# Altium footprint library CameraBoard.PcbLib: 41 footprints (part 1 of 3)
Each footprint in its own frame and in the unit in brackets; x right, y up, seen from the top. Pads: shape width x height; smd on the part's side, far side on the other; paste and mask are expansions set on the pad; w line width, h text height; cw(c..) or ccw(c..) is an arc to the next point about the centre after c.
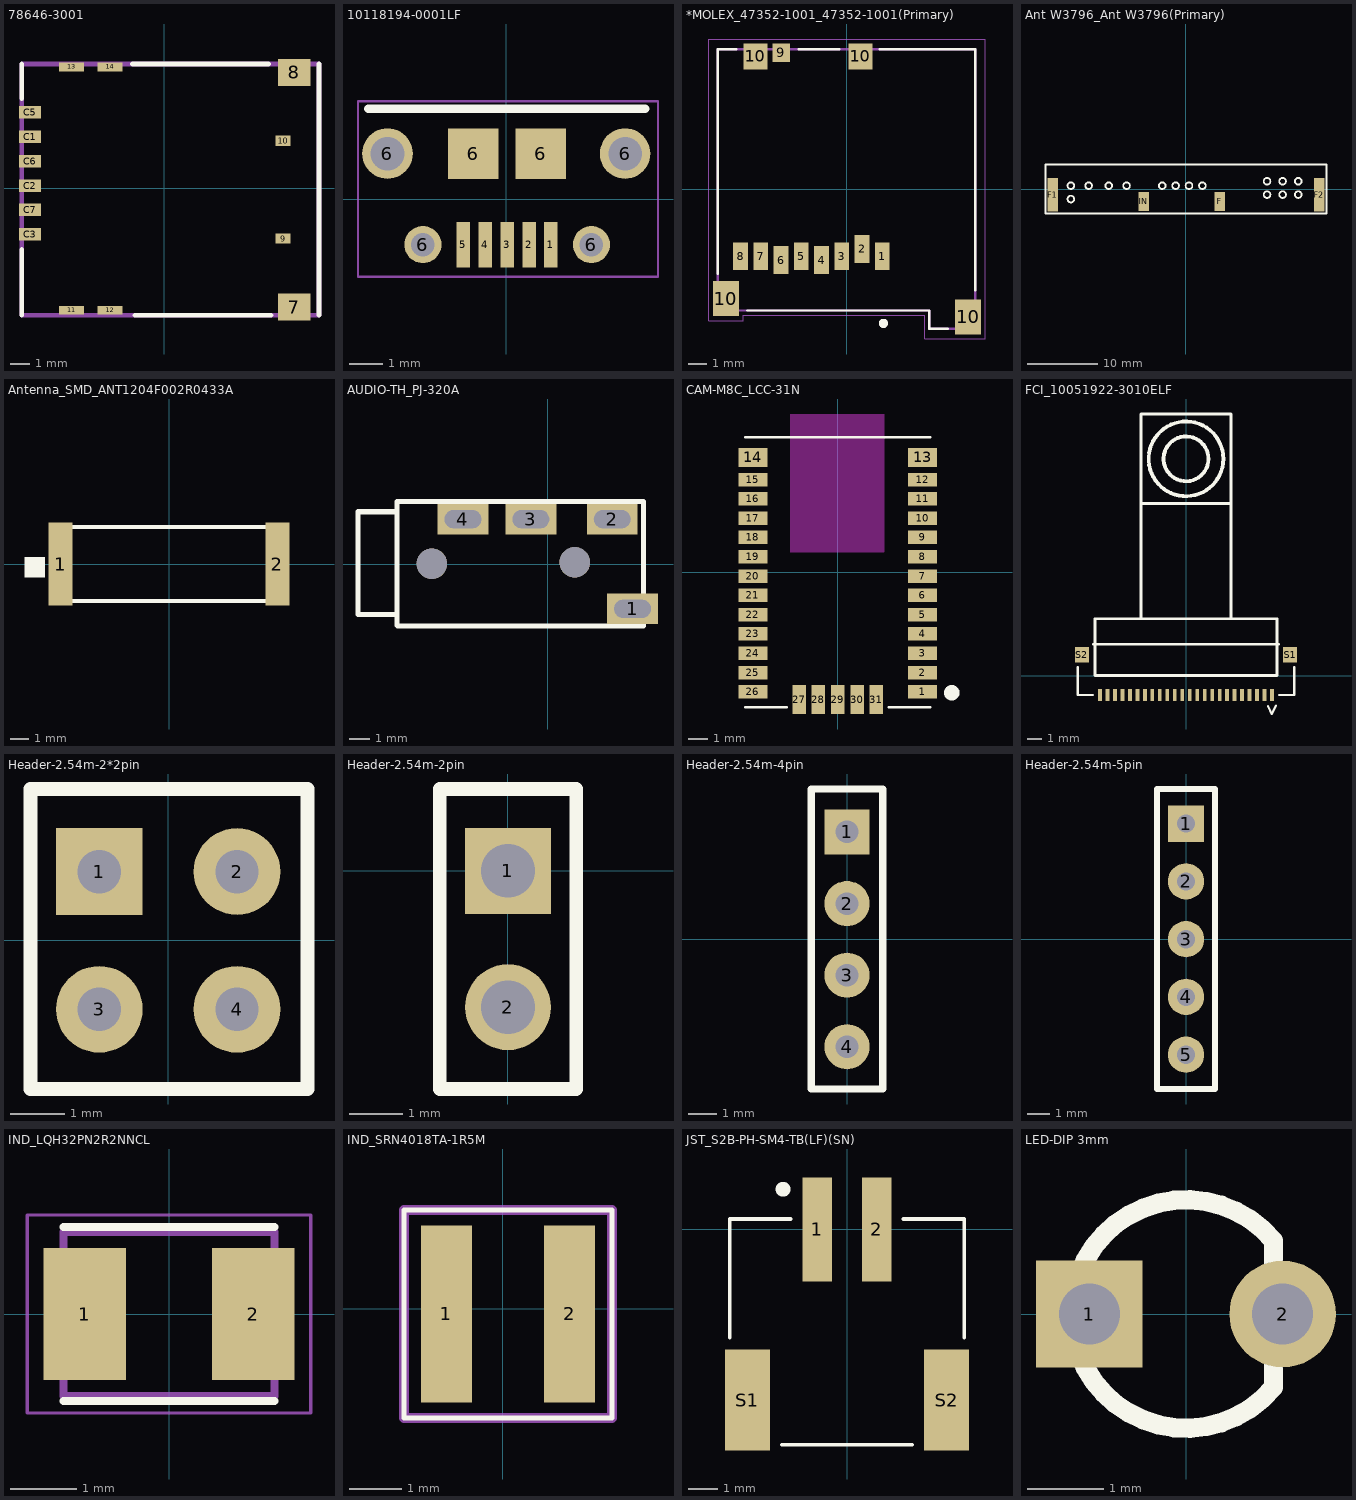
[diagram p0: the footprints below, top view; thin cyan lines are the x and y axes]

## 78646-3001 [mm]
pads (14):
  rect 1.7x1.4 smd: 7(6.762,-6.189) 8(6.762,6.021)
  rect 0.8x0.54 smd: 9(6.182,-2.619) 10(6.182,2.461)
  rect 1.3x0.45 smd: 11(-4.808,-6.349) 12(-2.808,-6.349) 13(-4.808,6.301) 14(-2.808,6.301)
  rect 1.15x0.65 smd: C1(-6.968,2.676) C2(-6.968,0.136) C3(-6.968,-2.404) C5(-6.968,3.946) C6(-6.968,1.406) C7(-6.968,-1.134)
Top Overlay:
  lines w0.254: -7.398,-6.604 -7.398,-3.184 ; -7.398,4.649 -7.398,6.446 ; -1.641,6.446 5.429,6.446 ; -1.514,-6.604 5.556,-6.604 ; 8.052,-6.604 8.052,6.446
Mechanical 15:
  lines w0.254: -7.398,-6.604 8.052,-6.604 8.052,6.446 -7.398,6.446 -7.398,-6.604
3D body "78646-3001.stp": height 1.81, standoff 0.36, extent -7.42,-6.7 8.03,6.35

## 10118194-0001LF [mm] "CONN USB MICRO B RECPT SMT R/A"
pads (11):
  rect 0.4x1.35 smd: 1(1.325,-1.35) 2(0.675,-1.35) 3(0.025,-1.35) 4(-0.625,-1.35) 5(-1.275,-1.35)
  round 1.5 hole 1: 6(-3.525,1.35) 6(3.525,1.35)
  round 1.1 hole 0.7: 6(-2.475,-1.35) 6(2.525,-1.35)
  rect 1.5x1.5 smd: 6(-0.975,1.35) 6(1.025,1.35)
Top Overlay:
  lines w0.25: -4.1,2.675 4.125,2.675
Mechanical 15:
  lines w0.07: -4.4,-2.3 4.5,-2.3 4.5,2.9 -4.4,2.9 -4.4,-2.3
3D body "MICRO_USB_5PIN_0921_ASM.STEP": height 2.73, standoff -0.55, extent -4,-1.553 4.05,4.027

## *MOLEX_47352-1001_47352-1001(Primary) [mm]
pads (13):
  rect 0.8x1.5 smd: 1(1.94,-3.66) 2(0.84,-3.26) 3(-0.26,-3.66) 4(-1.36,-3.86) 5(-2.46,-3.66) 6(-3.56,-3.86) 7(-4.66,-3.66) 8(-5.76,-3.66)
  rect 0.95x1 smd: 9(-3.56,7.4)
  rect 1.4x1.9 smd: 10(-6.55,-5.95) 10(6.6,-6.95)
  rect 1.3x1.4 smd: 10(-4.95,7.2) 10(0.75,7.2)
Top Overlay:
  circle w0.3: c2,-7.3 r0.1
  lines w0.127: -7,-4.6 -7,7.6 -6,7.6 ; -5.4,-6.6 4.5,-6.6 4.5,-7.6 5.5,-7.6 ; -2.6,7.6 -0.4,7.6 ; 1.8,7.6 7,7.6 7,-5.5
Mechanical 4:
  circle w0.3: c2,-3.7 r0.1
  circle w0.3: c2,-3.7 r0.1
  lines w0.127: -7,-6.6 4.5,-6.6 ; -7,-6.6 -7,7.6 ; -7,-6.6 4.5,-6.6 ; -7,-6.6 -7,7.6 ; -7,7.6 7,7.6 ; -7,7.6 7,7.6 ; 4.5,-7.6 7,-7.6 ; 4.5,-7.6 4.5,-6.6 ; 4.5,-7.6 7,-7.6 ; 4.5,-7.6 4.5,-6.6 ; 7,-7.6 7,7.6 ; 7,-7.6 7,7.6
Mechanical 16:
  lines w0.05: -7.5,-7.15 -5.6,-7.15 -5.6,-6.85 4.25,-6.85 4.25,-8.15 7.55,-8.15 7.55,8.15 -7.5,8.15 -7.5,-7.15
3D body "User Library-473521001_microSD.STEP": height 1.87, standoff -0.01, extent -7.05,-7.58 7.05,7.62

## Ant W3796_Ant W3796(Primary) [mm]
pads (4):
  rect 1.5x2.72 smd: F(4.808,-1.774) IN(-5.993,-1.774)
  rect 1.5x4.72 smd: F1(-18.992,-0.823) F2(19.008,-0.823)
Top Overlay:
  drawing of 544 lines, arcs and shapes, not listed

## Antenna_SMD_ANT1204F002R0433A [mm]
pads (2):
  rect 1.3x4.5 smd: 1(-5.85,0) 2(5.85,0)
Top Overlay:
  rectangle: -7.8,-0.74 -6.7,0.39
  lines w0.2: -6,-2 6,-2 6,2 -6,2 -6,-2

## AUDIO-TH_PJ-320A [mil]
pads (6):
  rect 98.42x59.06 hole 35.43 slot 70.87 at 0 deg: 1(164.15,-86.8) 4(-164.15,86.8)
  rect 98.43x59.06 hole 35.43 slot 70.86 at 0 deg: 2(124.78,86.8) 3(-32.7,86.8)
  round 59.06 hole 59.06 unplated: ""(-224.25,0.6) ""(52.05,3)
Top Overlay:
  lines w10: -367.34,-97.04 -367.34,99.81 ; -367.34,-96.25 -367.34,-97.43 -292.93,-97.43 -291.75,-97.43 ; -367.34,100.99 -292.93,100.99 -291.75,102.17 ; -291.75,-119.09 -291.75,121.07 184.63,121.07 ; -290.97,-119.87 185.41,-119.87 ; 185.41,-119.09 185.41,121.07

## CAM-M8C_LCC-31N [mm]
pads (31):
  rect 1.5x0.7 smd: 1(4.4,-6.2) 2(4.4,-5.2) 3(4.4,-4.2) 4(4.4,-3.2) 5(4.4,-2.2) 6(4.4,-1.2) 7(4.4,-0.2) 8(4.4,0.8) 9(4.4,1.8) 10(4.4,2.8) 11(4.4,3.8) 12(4.4,4.8) 15(-4.4,4.8) 16(-4.4,3.8) 17(-4.4,2.8) 18(-4.4,1.8) 19(-4.4,0.8) 20(-4.4,-0.2) 21(-4.4,-1.2) 22(-4.4,-2.2) 23(-4.4,-3.2) 24(-4.4,-4.2) 25(-4.4,-5.2) 26(-4.4,-6.2)
  rect 1.5x1 smd: 13(4.4,5.95) 14(-4.4,5.95)
  rect 0.7x1.5 smd: 27(-2,-6.6) 28(-1,-6.6) 29(0,-6.6) 30(1,-6.6) 31(2,-6.6)
Top Overlay:
  circle w0.4: c5.91,-6.25 r0.2
  lines w0.127: -4.8,-7 -2.65,-7 ; -4.8,7 4.8,7 ; 2.65,-7 4.8,-7
Keep-Out Layer:
  region: 2.4,1.022 -2.453,1.022 -2.453,8.2 2.4,8.2
3D body "CAM-M8C-0.STEP": height 2.3, standoff 0, extent -4.82,-6.96 4.78,7.04

## FCI_10051922-3010ELF [mm]
pads (26):
  rect 0.25x0.813 smd: 1(5.75,-1.303) 2(5.25,-1.303) 3(4.75,-1.303) 4(4.25,-1.303) 5(3.75,-1.303) 6(3.25,-1.303) 7(2.75,-1.303) 8(2.25,-1.303) 9(1.75,-1.303) 10(1.25,-1.303) 11(0.75,-1.303) 12(0.25,-1.303) 13(-0.25,-1.303) 14(-0.75,-1.303) 15(-1.25,-1.303) 16(-1.75,-1.303) 17(-2.25,-1.303) 18(-2.75,-1.303) 19(-3.25,-1.303) 20(-3.75,-1.303) 21(-4.25,-1.303) 22(-4.75,-1.303) 23(-5.25,-1.303) 24(-5.75,-1.303)
  rect 0.965x1.016 smd: S1(6.96,1.389) S2(-6.96,1.389)
Top Overlay:
  circle w0.254: c0,14.5 r1.5
  circle w0.254: c0,14.5 r2.5
  lines w0.152: -7.239,0.551 -7.239,-1.303 -6.248,-1.303 ; -6.198,2.1 6.198,2.1 ; 5.486,-2.04 5.74,-2.573 6.02,-2.014 ; 6.248,-1.303 7.239,-1.303 7.239,0.551
  lines w0.2: -3,3.8 -3,17.5 3,17.5 3,3.8 ; -3,11.5 3,11.5 ; -6.1,0 6.1,0 6.1,3.8 -6.1,3.8 -6.1,0

## Header-2.54m-2*2pin [mm]
pads (4):
  rect 1.6x1.6 hole 0.8: 1(-1.27,1.27)
  round 1.6 hole 0.8: 2(1.27,1.27) 3(-1.27,-1.27) 4(1.27,-1.27)
Top Overlay:
  lines w0.254: -2.54,-2.74 2.57,-2.74 2.57,2.794 -2.54,2.794 -2.54,-2.74

## Header-2.54m-2pin [mm]
pads (2):
  rect 1.6x1.6 hole 1: 1(0,0)
  round 1.6 hole 1: 2(0,-2.54)
Top Overlay:
  lines w0.254: -1.27,-4.064 1.27,-4.064 1.27,1.524 -1.27,1.524 -1.27,-4.064
3D body "61300211121_Download_STP_61300211121_rev1.stp": height 8.77, standoff -2.77, extent -1.24,-3.78 1.3,1.3

## Header-2.54m-4pin [mm]
pads (4):
  rect 1.6x1.6 hole 0.8: 1(0,3.81)
  round 1.6 hole 0.8: 2(0,1.27) 3(0,-1.27) 4(0,-3.81)
Top Overlay:
  lines w0.254: -1.27,-5.31 1.27,-5.31 1.27,5.334 -1.27,5.334 -1.27,-5.31

## Header-2.54m-5pin [mm]
pads (5):
  rect 1.6x1.6 hole 0.8: 1(0,5.08)
  round 1.6 hole 0.8: 2(0,2.54) 3(0,0) 4(0,-2.54) 5(0,-5.08)
Top Overlay:
  lines w0.254: -1.27,-6.59 -1.27,6.604 1.27,6.604 1.27,-6.59 -1.27,-6.59

## IND_LQH32PN2R2NNCL [mm] "IND_LQH32PN2R2NNCL"
pads (2):
  rect 1.25x2 smd: 1(-1.275,0) 2(1.275,0)
Top Overlay:
  lines w0.127: -1.6,-1.32 1.6,-1.32 ; -1.6,1.32 1.6,1.32
Mechanical 16:
  lines w0.05: -2.15,-1.5 -2.15,1.5 2.15,1.5 2.15,-1.5 -2.15,-1.5
  lines w0.127: -1.6,-1.25 -1.6,1.25 1.6,1.25 1.6,-1.25 -1.6,-1.25

## IND_SRN4018TA-1R5M [mm]
pads (2):
  rect 0.98x3.4 smd: 1(-1.083,-0.102) 2(1.287,-0.102)
Top Overlay:
  lines w0.1: -1.898,-2.102 -1.898,1.898 2.102,1.898 2.102,-2.102 -1.898,-2.102
Mechanical 15:
  lines w0.2: -1.898,-2.102 -1.898,1.898 2.102,1.898 2.102,-2.102 -1.898,-2.102
3D body "XFL4020-152MEB.stp": height 2.2, standoff 0, extent -1.898,-2.101 2.102,1.898

## JST_S2B-PH-SM4-TB(LF)(SN) [mm]
pads (4):
  rect 1x3.5 smd: 1(-1,0) 2(1,0)
  rect 1.5x3.4 smd: S1(-3.35,-5.75) S2(3.35,-5.75)
Top Overlay:
  circle w0.3: c-2.15,1.35 r0.1
  lines w0.127: -3.95,-3.65 -3.95,0.35 -1.9,0.35 ; -2.2,-7.25 2.2,-7.25 ; 1.9,0.35 3.95,0.35 3.95,-3.65
3D body "S2B-PH-SM4-TB(LF)(SN)--3DModel-STEP-56544.STEP": height 5.6, standoff 0, extent -3.99,-7.23 3.91,1.37

## LED-DIP 3mm [mm]
pads (2):
  rect 1.4x1.4 hole 0.8: 1(-1.27,0)
  round 1.4 hole 0.8: 2(1.27,0)
Top Overlay:
  lines w0.254: 1.149,-0.964 cw(c0,0) 1.149,0.964 1.149,-0.964